# Altium schematic symbol library Lysreklameparalellbusskontakt2015_FEMALE.SchLib: 1 symbol
Pins are listed as number, name and electrical type; pins without a type are passive.

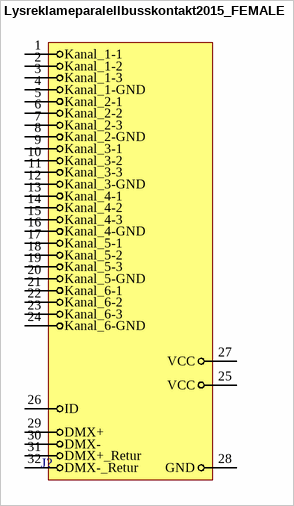
[diagram p0: symbol Lysreklameparalellbusskontakt2015_FEMALE]

## Lysreklameparalellbusskontakt2015_FEMALE
designator J?  (value not drawn)
footprint HDRRAF32W64P254_2X16_4064X1260X600B (Header Right Angle 2x16 Female)
pins: 1 Kanal_1-1, 2 Kanal_1-2, 3 Kanal_1-3, 4 Kanal_1-GND, 5 Kanal_2-1, 6 Kanal_2-2, 7 Kanal_2-3, 8 Kanal_2-GND, 9 Kanal_3-1, 10 Kanal_3-2, 11 Kanal_3-3, 12 Kanal_3-GND, 13 Kanal_4-1, 14 Kanal_4-2, 15 Kanal_4-3, 16 Kanal_4-GND, 17 Kanal_5-1, 18 Kanal_5-2, 19 Kanal_5-3, 20 Kanal_5-GND, 21 Kanal_6-1, 22 Kanal_6-2, 23 Kanal_6-3, 24 Kanal_6-GND, 25 VCC, 26 ID, 27 VCC, 28 GND, 29 DMX+, 30 DMX-, 31 DMX+_Retur, 32 DMX-_Retur